# Altium integrated library example.IntLib: 1 symbol
Pins are listed as number, name and electrical type; pins without a type are passive.

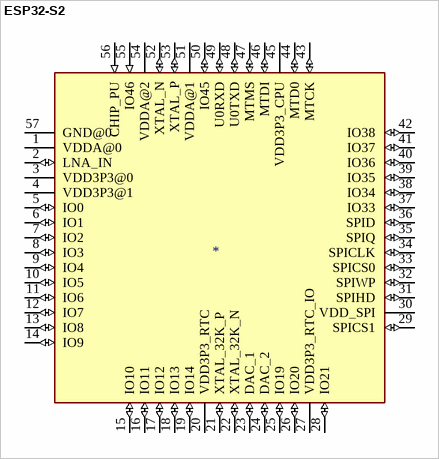
[diagram p0: symbol ESP32-S2]

## ESP32-S2
designator ?
SMD WI-FI IC, ESP32-S2, SINGAL-C; MF: Espressif Systems; Value: *; Package: None; Price: None; MP: ESP32-S2; Availability: Unavailable; SnapEDA_Link: https://www.snapeda.com/parts/ESP32-S2/Espressif%20Systems/view-part/4571535/?ref=snap
footprint QFN40P700X700X90-57T400N
pins: 1 VDDA@0 (power), 2 LNA_IN (io), 3 VDD3P3@0 (power), 4 VDD3P3@1 (power), 5 IO0 (io), 6 IO1 (io), 7 IO2 (io), 8 IO3 (io), 9 IO4 (io), 10 IO5 (io), 11 IO6 (io), 12 IO7 (io), 13 IO8 (io), 14 IO9 (io), 15 IO10 (io), 16 IO11 (io), 17 IO12 (io), 18 IO13 (io), 19 IO14 (io), 20 VDD3P3_RTC (power), 21 XTAL_32K_P (io), 22 XTAL_32K_N (io), 23 DAC_1 (io), 24 DAC_2 (io), 25 IO19 (io), 26 IO20 (io), 27 VDD3P3_RTC_IO (power), 28 IO21 (io), 29 SPICS1 (io), 30 VDD_SPI (power), 31 SPIHD (io), 32 SPIWP (io), 33 SPICS0 (io), 34 SPICLK (io), 35 SPIQ (io), 36 SPID (io), 37 IO33 (io), 38 IO34 (io), 39 IO35 (io), 40 IO36 (io), 41 IO37 (io), 42 IO38 (io), 43 MTCK (io), 44 MTD0 (io), 45 VDD3P3_CPU (power), 46 MTDI (io), 47 MTMS (io), 48 U0TXD (io), 49 U0RXD (io), 50 IO45 (io), 51 VDDA@1 (power), 52 XTAL_N (io), 53 XTAL_P (io), 54 VDDA@2 (power), 55 IO46 (in), 56 CHIP_PU (in), 57 GND@0 (power)